# Altium schematic symbol library Converter_DCDC.SchLib: 947 symbols (part 4 of 12)
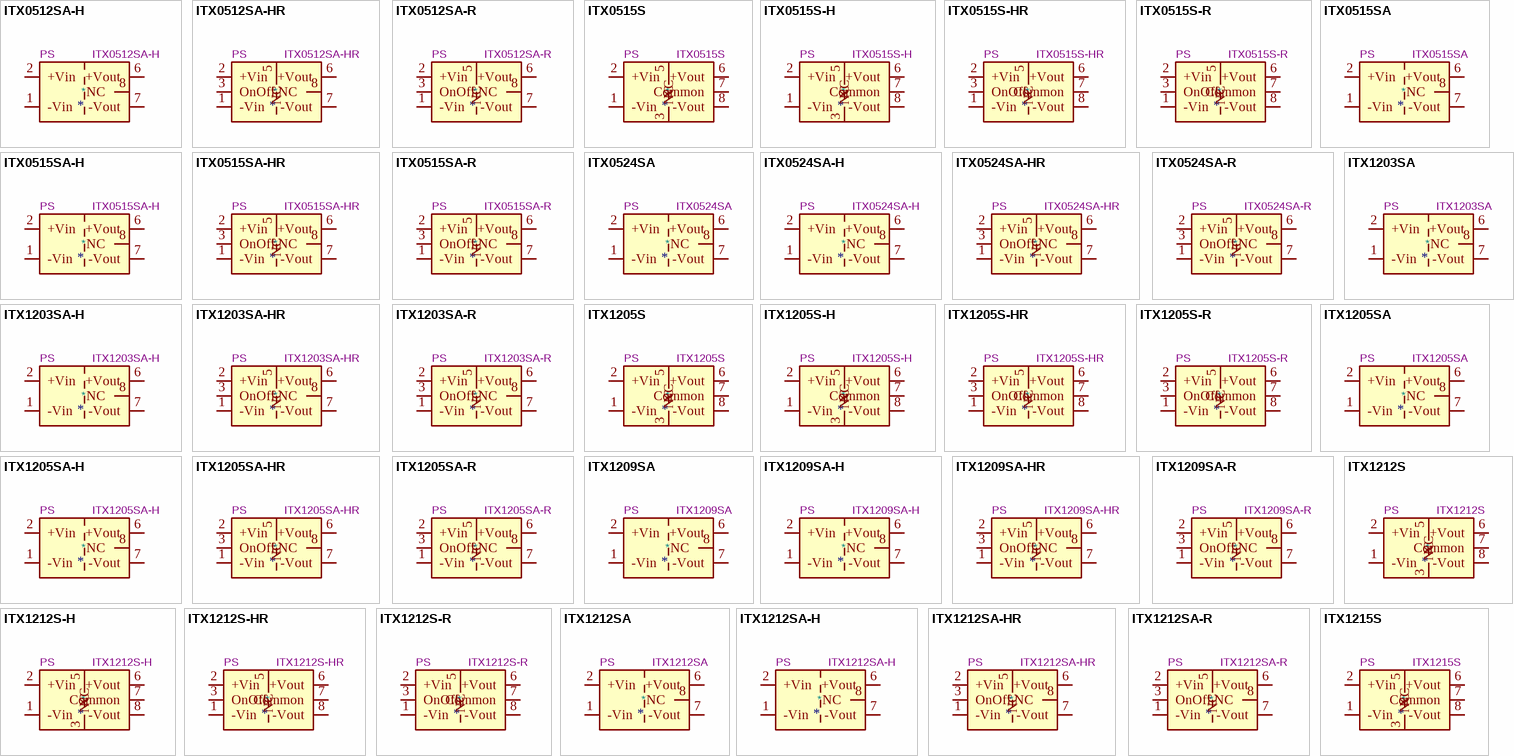
[diagram p26: symbols ITX0512SA-H to ITX1215S]

## ITX1205SA-R
designator *  value ITX1205SA-R  Reference: PS
XP Power 6W, 1000 VDC Isolated DC/DC Converter Module, Remote Control, Fully Regulated Single Output Voltage 5V, ±1200mA, 12V Input Voltage, SIP; ki_keywords: XP_POWER DC/DC isolated Converter module; ki_fp_filters: *XP?POWER?ITxxxxx*; Footprint: Converter_DCDC:Converter_DCDC_XP_POWER-ITxxxxxS_THT; Datasheet: https://www.xppower.com/pdfs/SF_ITX.pdf; Description_: XP Power 6W, 1000 VDC Isolated DC/DC Converter Module, Remote Control, Fully Regulated Single Output Voltage 5V, ±1200mA, 12V Input Voltage, SIP
pins: 1 -Vin, 2 +Vin, 3 OnOff, 5 NC, 6 +Vout, 7 -Vout, 8 NC

## ITX1209SA
designator *  value ITX1209SA  Reference: PS
XP Power 6W, 1000 VDC Isolated DC/DC Converter Module, Fully Regulated Single Output Voltage 9V, ±666mA, 12V Input Voltage, SIP; ki_keywords: XP_POWER DC/DC isolated Converter module; ki_fp_filters: *XP?POWER?ITXxxxxSA*; Footprint: Converter_DCDC:Converter_DCDC_XP_POWER-ITXxxxxSA_THT; Datasheet: https://www.xppower.com/pdfs/SF_ITX.pdf; Description_: XP Power 6W, 1000 VDC Isolated DC/DC Converter Module, Fully Regulated Single Output Voltage 9V, ±666mA, 12V Input Voltage, SIP
pins: 1 -Vin, 2 +Vin, 6 +Vout, 7 -Vout, 8 NC

## ITX1209SA-H
designator *  value ITX1209SA-H  Reference: PS
XP Power 6W, 3000 VDC Isolated DC/DC Converter Module, Fully Regulated Single Output Voltage 9V, ±666mA, 12V Input Voltage, SIP; ki_keywords: XP_POWER DC/DC isolated Converter module; ki_fp_filters: *XP?POWER?ITXxxxxSA*; Footprint: Converter_DCDC:Converter_DCDC_XP_POWER-ITXxxxxSA_THT; Datasheet: https://www.xppower.com/pdfs/SF_ITX.pdf; Description_: XP Power 6W, 3000 VDC Isolated DC/DC Converter Module, Fully Regulated Single Output Voltage 9V, ±666mA, 12V Input Voltage, SIP
pins: 1 -Vin, 2 +Vin, 6 +Vout, 7 -Vout, 8 NC

## ITX1209SA-HR
designator *  value ITX1209SA-HR  Reference: PS
XP Power 6W, 3000 VDC Isolated DC/DC Converter Module, Remote Control, Fully Regulated Single Output Voltage 9V, ±666mA, 12V Input Voltage, SIP; ki_keywords: XP_POWER DC/DC isolated Converter module; ki_fp_filters: *XP?POWER?ITxxxxx*; Footprint: Converter_DCDC:Converter_DCDC_XP_POWER-ITxxxxxS_THT; Datasheet: https://www.xppower.com/pdfs/SF_ITX.pdf; Description_: XP Power 6W, 3000 VDC Isolated DC/DC Converter Module, Remote Control, Fully Regulated Single Output Voltage 9V, ±666mA, 12V Input Voltage, SIP
pins: 1 -Vin, 2 +Vin, 3 OnOff, 5 NC, 6 +Vout, 7 -Vout, 8 NC

## ITX1209SA-R
designator *  value ITX1209SA-R  Reference: PS
XP Power 6W, 1000 VDC Isolated DC/DC Converter Module, Remote Control, Fully Regulated Single Output Voltage 9V, ±666mA, 12V Input Voltage, SIP; ki_keywords: XP_POWER DC/DC isolated Converter module; ki_fp_filters: *XP?POWER?ITxxxxx*; Footprint: Converter_DCDC:Converter_DCDC_XP_POWER-ITxxxxxS_THT; Datasheet: https://www.xppower.com/pdfs/SF_ITX.pdf; Description_: XP Power 6W, 1000 VDC Isolated DC/DC Converter Module, Remote Control, Fully Regulated Single Output Voltage 9V, ±666mA, 12V Input Voltage, SIP
pins: 1 -Vin, 2 +Vin, 3 OnOff, 5 NC, 6 +Vout, 7 -Vout, 8 NC

## ITX1212S
designator *  value ITX1212S  Reference: PS
XP Power 6W, 1000 VDC Isolated DC/DC Converter Module, Fully Regulated Dual Output Voltage ±12V, ±250mA, 12V Input Voltage, SIP; ki_keywords: XP_POWER DC/DC isolated Converter module; ki_fp_filters: *XP?POWER?ITxxxxx*; Footprint: Converter_DCDC:Converter_DCDC_XP_POWER-ITxxxxxS_THT; Datasheet: https://www.xppower.com/pdfs/SF_ITX.pdf; Description_: XP Power 6W, 1000 VDC Isolated DC/DC Converter Module, Fully Regulated Dual Output Voltage ±12V, ±250mA, 12V Input Voltage, SIP
pins: 1 -Vin, 2 +Vin, 3 NC, 5 NC, 6 +Vout, 7 Common, 8 -Vout

## ITX1212S-H
designator *  value ITX1212S-H  Reference: PS
XP Power 6W, 3000 VDC Isolated DC/DC Converter Module, Fully Regulated Dual Output Voltage ±12V, ±250mA, 12V Input Voltage, SIP; ki_keywords: XP_POWER DC/DC isolated Converter module; ki_fp_filters: *XP?POWER?ITxxxxx*; Footprint: Converter_DCDC:Converter_DCDC_XP_POWER-ITxxxxxS_THT; Datasheet: https://www.xppower.com/pdfs/SF_ITX.pdf; Description_: XP Power 6W, 3000 VDC Isolated DC/DC Converter Module, Fully Regulated Dual Output Voltage ±12V, ±250mA, 12V Input Voltage, SIP
pins: 1 -Vin, 2 +Vin, 3 NC, 5 NC, 6 +Vout, 7 Common, 8 -Vout

## ITX1212S-HR
designator *  value ITX1212S-HR  Reference: PS
XP Power 6W, 3000 VDC Isolated DC/DC Converter Module, Remote Control, Fully Regulated Dual Output Voltage ±12V, ±250mA, 12V Input Voltage, SIP; ki_keywords: XP_POWER DC/DC isolated Converter module; ki_fp_filters: *XP?POWER?ITxxxxx*; Footprint: Converter_DCDC:Converter_DCDC_XP_POWER-ITxxxxxS_THT; Datasheet: https://www.xppower.com/pdfs/SF_ITX.pdf; Description_: XP Power 6W, 3000 VDC Isolated DC/DC Converter Module, Remote Control, Fully Regulated Dual Output Voltage ±12V, ±250mA, 12V Input Voltage, SIP
pins: 1 -Vin, 2 +Vin, 3 OnOff, 5 NC, 6 +Vout, 7 Common, 8 -Vout

## ITX1212S-R
designator *  value ITX1212S-R  Reference: PS
XP Power 6W, 1000 VDC Isolated DC/DC Converter Module, Remote Control, Fully Regulated Dual Output Voltage ±12V, ±250mA, 12V Input Voltage, SIP; ki_keywords: XP_POWER DC/DC isolated Converter module; ki_fp_filters: *XP?POWER?ITxxxxx*; Footprint: Converter_DCDC:Converter_DCDC_XP_POWER-ITxxxxxS_THT; Datasheet: https://www.xppower.com/pdfs/SF_ITX.pdf; Description_: XP Power 6W, 1000 VDC Isolated DC/DC Converter Module, Remote Control, Fully Regulated Dual Output Voltage ±12V, ±250mA, 12V Input Voltage, SIP
pins: 1 -Vin, 2 +Vin, 3 OnOff, 5 NC, 6 +Vout, 7 Common, 8 -Vout

## ITX1212SA
designator *  value ITX1212SA  Reference: PS
XP Power 6W, 1000 VDC Isolated DC/DC Converter Module, Fully Regulated Single Output Voltage 12V, ±500mA, 12V Input Voltage, SIP; ki_keywords: XP_POWER DC/DC isolated Converter module; ki_fp_filters: *XP?POWER?ITXxxxxSA*; Footprint: Converter_DCDC:Converter_DCDC_XP_POWER-ITXxxxxSA_THT; Datasheet: https://www.xppower.com/pdfs/SF_ITX.pdf; Description_: XP Power 6W, 1000 VDC Isolated DC/DC Converter Module, Fully Regulated Single Output Voltage 12V, ±500mA, 12V Input Voltage, SIP
pins: 1 -Vin, 2 +Vin, 6 +Vout, 7 -Vout, 8 NC

## ITX1212SA-H
designator *  value ITX1212SA-H  Reference: PS
XP Power 6W, 3000 VDC Isolated DC/DC Converter Module, Fully Regulated Single Output Voltage 12V, ±500mA, 12V Input Voltage, SIP; ki_keywords: XP_POWER DC/DC isolated Converter module; ki_fp_filters: *XP?POWER?ITXxxxxSA*; Footprint: Converter_DCDC:Converter_DCDC_XP_POWER-ITXxxxxSA_THT; Datasheet: https://www.xppower.com/pdfs/SF_ITX.pdf; Description_: XP Power 6W, 3000 VDC Isolated DC/DC Converter Module, Fully Regulated Single Output Voltage 12V, ±500mA, 12V Input Voltage, SIP
pins: 1 -Vin, 2 +Vin, 6 +Vout, 7 -Vout, 8 NC

## ITX1212SA-HR
designator *  value ITX1212SA-HR  Reference: PS
XP Power 6W, 3000 VDC Isolated DC/DC Converter Module, Remote Control, Fully Regulated Single Output Voltage 12V, ±500mA, 12V Input Voltage, SIP; ki_keywords: XP_POWER DC/DC isolated Converter module; ki_fp_filters: *XP?POWER?ITxxxxx*; Footprint: Converter_DCDC:Converter_DCDC_XP_POWER-ITxxxxxS_THT; Datasheet: https://www.xppower.com/pdfs/SF_ITX.pdf; Description_: XP Power 6W, 3000 VDC Isolated DC/DC Converter Module, Remote Control, Fully Regulated Single Output Voltage 12V, ±500mA, 12V Input Voltage, SIP
pins: 1 -Vin, 2 +Vin, 3 OnOff, 5 NC, 6 +Vout, 7 -Vout, 8 NC

## ITX1212SA-R
designator *  value ITX1212SA-R  Reference: PS
XP Power 6W, 1000 VDC Isolated DC/DC Converter Module, Remote Control, Fully Regulated Single Output Voltage 12V, ±500mA, 12V Input Voltage, SIP; ki_keywords: XP_POWER DC/DC isolated Converter module; ki_fp_filters: *XP?POWER?ITxxxxx*; Footprint: Converter_DCDC:Converter_DCDC_XP_POWER-ITxxxxxS_THT; Datasheet: https://www.xppower.com/pdfs/SF_ITX.pdf; Description_: XP Power 6W, 1000 VDC Isolated DC/DC Converter Module, Remote Control, Fully Regulated Single Output Voltage 12V, ±500mA, 12V Input Voltage, SIP
pins: 1 -Vin, 2 +Vin, 3 OnOff, 5 NC, 6 +Vout, 7 -Vout, 8 NC

## ITX1215S
designator *  value ITX1215S  Reference: PS
XP Power 6W, 1000 VDC Isolated DC/DC Converter Module, Fully Regulated Dual Output Voltage ±15V, ±200mA, 12V Input Voltage, SIP; ki_keywords: XP_POWER DC/DC isolated Converter module; ki_fp_filters: *XP?POWER?ITxxxxx*; Footprint: Converter_DCDC:Converter_DCDC_XP_POWER-ITxxxxxS_THT; Datasheet: https://www.xppower.com/pdfs/SF_ITX.pdf; Description_: XP Power 6W, 1000 VDC Isolated DC/DC Converter Module, Fully Regulated Dual Output Voltage ±15V, ±200mA, 12V Input Voltage, SIP
pins: 1 -Vin, 2 +Vin, 3 NC, 5 NC, 6 +Vout, 7 Common, 8 -Vout

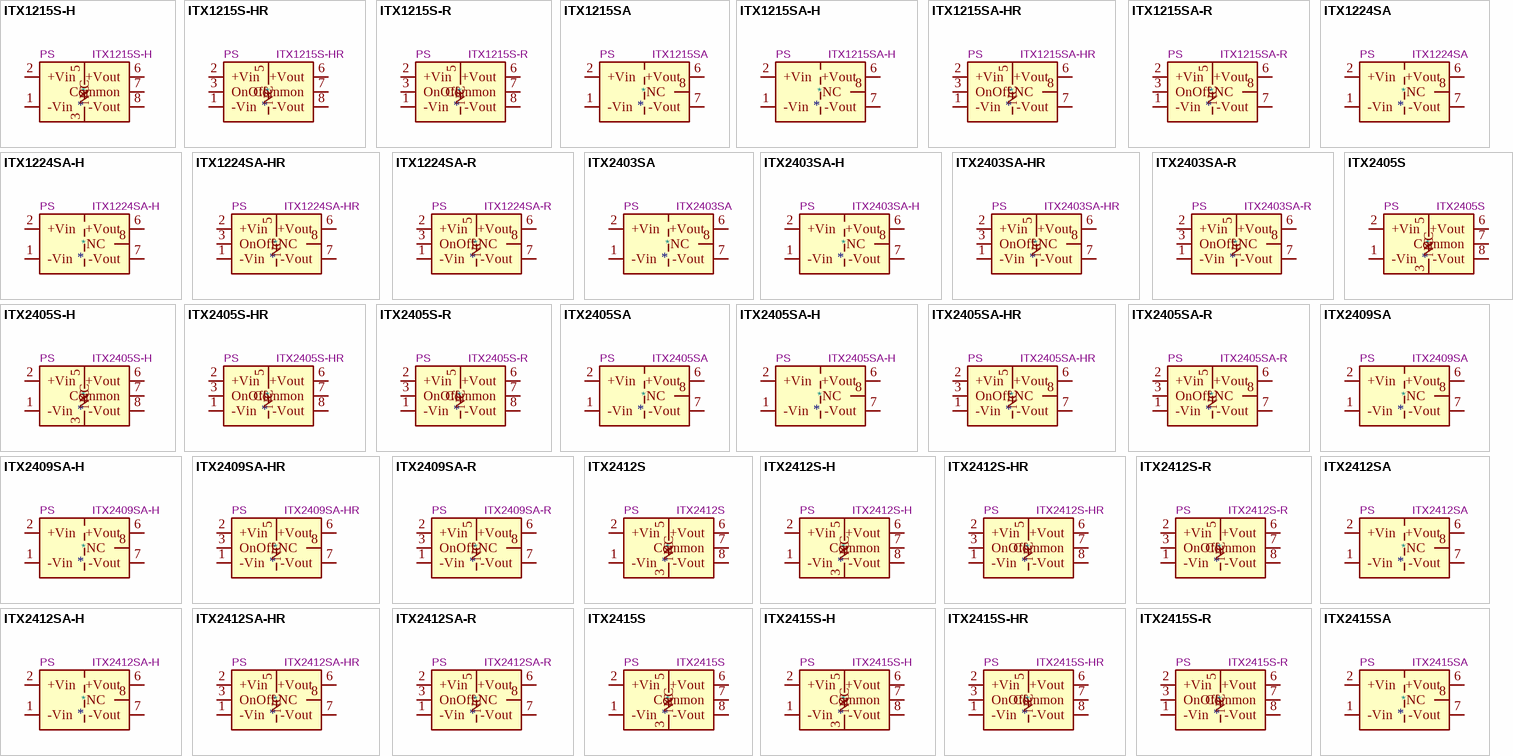
[diagram p7: symbols ITX1215S-H to ITX2415SA]

## ITX1215S-H
designator *  value ITX1215S-H  Reference: PS
XP Power 6W, 3000 VDC Isolated DC/DC Converter Module, Fully Regulated Dual Output Voltage ±15V, ±200mA, 12V Input Voltage, SIP; ki_keywords: XP_POWER DC/DC isolated Converter module; ki_fp_filters: *XP?POWER?ITxxxxx*; Footprint: Converter_DCDC:Converter_DCDC_XP_POWER-ITxxxxxS_THT; Datasheet: https://www.xppower.com/pdfs/SF_ITX.pdf; Description_: XP Power 6W, 3000 VDC Isolated DC/DC Converter Module, Fully Regulated Dual Output Voltage ±15V, ±200mA, 12V Input Voltage, SIP
pins: 1 -Vin, 2 +Vin, 3 NC, 5 NC, 6 +Vout, 7 Common, 8 -Vout

## ITX1215S-HR
designator *  value ITX1215S-HR  Reference: PS
XP Power 6W, 3000 VDC Isolated DC/DC Converter Module, Remote Control, Fully Regulated Dual Output Voltage ±15V, ±200mA, 12V Input Voltage, SIP; ki_keywords: XP_POWER DC/DC isolated Converter module; ki_fp_filters: *XP?POWER?ITxxxxx*; Footprint: Converter_DCDC:Converter_DCDC_XP_POWER-ITxxxxxS_THT; Datasheet: https://www.xppower.com/pdfs/SF_ITX.pdf; Description_: XP Power 6W, 3000 VDC Isolated DC/DC Converter Module, Remote Control, Fully Regulated Dual Output Voltage ±15V, ±200mA, 12V Input Voltage, SIP
pins: 1 -Vin, 2 +Vin, 3 OnOff, 5 NC, 6 +Vout, 7 Common, 8 -Vout

## ITX1215S-R
designator *  value ITX1215S-R  Reference: PS
XP Power 6W, 1000 VDC Isolated DC/DC Converter Module, Remote Control, Fully Regulated Dual Output Voltage ±15V, ±200mA, 12V Input Voltage, SIP; ki_keywords: XP_POWER DC/DC isolated Converter module; ki_fp_filters: *XP?POWER?ITxxxxx*; Footprint: Converter_DCDC:Converter_DCDC_XP_POWER-ITxxxxxS_THT; Datasheet: https://www.xppower.com/pdfs/SF_ITX.pdf; Description_: XP Power 6W, 1000 VDC Isolated DC/DC Converter Module, Remote Control, Fully Regulated Dual Output Voltage ±15V, ±200mA, 12V Input Voltage, SIP
pins: 1 -Vin, 2 +Vin, 3 OnOff, 5 NC, 6 +Vout, 7 Common, 8 -Vout

## ITX1215SA
designator *  value ITX1215SA  Reference: PS
XP Power 6W, 1000 VDC Isolated DC/DC Converter Module, Fully Regulated Single Output Voltage 15V, ±400mA, 12V Input Voltage, SIP; ki_keywords: XP_POWER DC/DC isolated Converter module; ki_fp_filters: *XP?POWER?ITXxxxxSA*; Footprint: Converter_DCDC:Converter_DCDC_XP_POWER-ITXxxxxSA_THT; Datasheet: https://www.xppower.com/pdfs/SF_ITX.pdf; Description_: XP Power 6W, 1000 VDC Isolated DC/DC Converter Module, Fully Regulated Single Output Voltage 15V, ±400mA, 12V Input Voltage, SIP
pins: 1 -Vin, 2 +Vin, 6 +Vout, 7 -Vout, 8 NC

## ITX1215SA-H
designator *  value ITX1215SA-H  Reference: PS
XP Power 6W, 3000 VDC Isolated DC/DC Converter Module, Fully Regulated Single Output Voltage 15V, ±400mA, 12V Input Voltage, SIP; ki_keywords: XP_POWER DC/DC isolated Converter module; ki_fp_filters: *XP?POWER?ITXxxxxSA*; Footprint: Converter_DCDC:Converter_DCDC_XP_POWER-ITXxxxxSA_THT; Datasheet: https://www.xppower.com/pdfs/SF_ITX.pdf; Description_: XP Power 6W, 3000 VDC Isolated DC/DC Converter Module, Fully Regulated Single Output Voltage 15V, ±400mA, 12V Input Voltage, SIP
pins: 1 -Vin, 2 +Vin, 6 +Vout, 7 -Vout, 8 NC

## ITX1215SA-HR
designator *  value ITX1215SA-HR  Reference: PS
XP Power 6W, 3000 VDC Isolated DC/DC Converter Module, Remote Control, Fully Regulated Single Output Voltage 15V, ±400mA, 12V Input Voltage, SIP; ki_keywords: XP_POWER DC/DC isolated Converter module; ki_fp_filters: *XP?POWER?ITxxxxx*; Footprint: Converter_DCDC:Converter_DCDC_XP_POWER-ITxxxxxS_THT; Datasheet: https://www.xppower.com/pdfs/SF_ITX.pdf; Description_: XP Power 6W, 3000 VDC Isolated DC/DC Converter Module, Remote Control, Fully Regulated Single Output Voltage 15V, ±400mA, 12V Input Voltage, SIP
pins: 1 -Vin, 2 +Vin, 3 OnOff, 5 NC, 6 +Vout, 7 -Vout, 8 NC

## ITX1215SA-R
designator *  value ITX1215SA-R  Reference: PS
XP Power 6W, 1000 VDC Isolated DC/DC Converter Module, Remote Control, Fully Regulated Single Output Voltage 15V, ±400mA, 12V Input Voltage, SIP; ki_keywords: XP_POWER DC/DC isolated Converter module; ki_fp_filters: *XP?POWER?ITxxxxx*; Footprint: Converter_DCDC:Converter_DCDC_XP_POWER-ITxxxxxS_THT; Datasheet: https://www.xppower.com/pdfs/SF_ITX.pdf; Description_: XP Power 6W, 1000 VDC Isolated DC/DC Converter Module, Remote Control, Fully Regulated Single Output Voltage 15V, ±400mA, 12V Input Voltage, SIP
pins: 1 -Vin, 2 +Vin, 3 OnOff, 5 NC, 6 +Vout, 7 -Vout, 8 NC

## ITX1224SA
designator *  value ITX1224SA  Reference: PS
XP Power 6W, 1000 VDC Isolated DC/DC Converter Module, Fully Regulated Single Output Voltage 24V, ±250mA, 12V Input Voltage, SIP; ki_keywords: XP_POWER DC/DC isolated Converter module; ki_fp_filters: *XP?POWER?ITXxxxxSA*; Footprint: Converter_DCDC:Converter_DCDC_XP_POWER-ITXxxxxSA_THT; Datasheet: https://www.xppower.com/pdfs/SF_ITX.pdf; Description_: XP Power 6W, 1000 VDC Isolated DC/DC Converter Module, Fully Regulated Single Output Voltage 24V, ±250mA, 12V Input Voltage, SIP
pins: 1 -Vin, 2 +Vin, 6 +Vout, 7 -Vout, 8 NC

## ITX1224SA-H
designator *  value ITX1224SA-H  Reference: PS
XP Power 6W, 3000 VDC Isolated DC/DC Converter Module, Fully Regulated Single Output Voltage 24V, ±250mA, 12V Input Voltage, SIP; ki_keywords: XP_POWER DC/DC isolated Converter module; ki_fp_filters: *XP?POWER?ITXxxxxSA*; Footprint: Converter_DCDC:Converter_DCDC_XP_POWER-ITXxxxxSA_THT; Datasheet: https://www.xppower.com/pdfs/SF_ITX.pdf; Description_: XP Power 6W, 3000 VDC Isolated DC/DC Converter Module, Fully Regulated Single Output Voltage 24V, ±250mA, 12V Input Voltage, SIP
pins: 1 -Vin, 2 +Vin, 6 +Vout, 7 -Vout, 8 NC

## ITX1224SA-HR
designator *  value ITX1224SA-HR  Reference: PS
XP Power 6W, 3000 VDC Isolated DC/DC Converter Module, Remote Control, Fully Regulated Single Output Voltage 24V, ±250mA, 12V Input Voltage, SIP; ki_keywords: XP_POWER DC/DC isolated Converter module; ki_fp_filters: *XP?POWER?ITxxxxx*; Footprint: Converter_DCDC:Converter_DCDC_XP_POWER-ITxxxxxS_THT; Datasheet: https://www.xppower.com/pdfs/SF_ITX.pdf; Description_: XP Power 6W, 3000 VDC Isolated DC/DC Converter Module, Remote Control, Fully Regulated Single Output Voltage 24V, ±250mA, 12V Input Voltage, SIP
pins: 1 -Vin, 2 +Vin, 3 OnOff, 5 NC, 6 +Vout, 7 -Vout, 8 NC

## ITX1224SA-R
designator *  value ITX1224SA-R  Reference: PS
XP Power 6W, 1000 VDC Isolated DC/DC Converter Module, Remote Control, Fully Regulated Single Output Voltage 24V, ±250mA, 12V Input Voltage, SIP; ki_keywords: XP_POWER DC/DC isolated Converter module; ki_fp_filters: *XP?POWER?ITxxxxx*; Footprint: Converter_DCDC:Converter_DCDC_XP_POWER-ITxxxxxS_THT; Datasheet: https://www.xppower.com/pdfs/SF_ITX.pdf; Description_: XP Power 6W, 1000 VDC Isolated DC/DC Converter Module, Remote Control, Fully Regulated Single Output Voltage 24V, ±250mA, 12V Input Voltage, SIP
pins: 1 -Vin, 2 +Vin, 3 OnOff, 5 NC, 6 +Vout, 7 -Vout, 8 NC

## ITX2403SA
designator *  value ITX2403SA  Reference: PS
XP Power 6W, 1000 VDC Isolated DC/DC Converter Module, Fully Regulated Single Output Voltage 3.3V, ±1300mA, 24V Input Voltage, SIP; ki_keywords: XP_POWER DC/DC isolated Converter module; ki_fp_filters: *XP?POWER?ITXxxxxSA*; Footprint: Converter_DCDC:Converter_DCDC_XP_POWER-ITXxxxxSA_THT; Datasheet: https://www.xppower.com/pdfs/SF_ITX.pdf; Description_: XP Power 6W, 1000 VDC Isolated DC/DC Converter Module, Fully Regulated Single Output Voltage 3.3V, ±1300mA, 24V Input Voltage, SIP
pins: 1 -Vin, 2 +Vin, 6 +Vout, 7 -Vout, 8 NC

## ITX2403SA-H
designator *  value ITX2403SA-H  Reference: PS
XP Power 6W, 3000 VDC Isolated DC/DC Converter Module, Fully Regulated Single Output Voltage 3.3V, ±1300mA, 24V Input Voltage, SIP; ki_keywords: XP_POWER DC/DC isolated Converter module; ki_fp_filters: *XP?POWER?ITXxxxxSA*; Footprint: Converter_DCDC:Converter_DCDC_XP_POWER-ITXxxxxSA_THT; Datasheet: https://www.xppower.com/pdfs/SF_ITX.pdf; Description_: XP Power 6W, 3000 VDC Isolated DC/DC Converter Module, Fully Regulated Single Output Voltage 3.3V, ±1300mA, 24V Input Voltage, SIP
pins: 1 -Vin, 2 +Vin, 6 +Vout, 7 -Vout, 8 NC

## ITX2403SA-HR
designator *  value ITX2403SA-HR  Reference: PS
XP Power 6W, 3000 VDC Isolated DC/DC Converter Module, Remote Control, Fully Regulated Single Output Voltage 3.3V, ±1300mA, 24V Input Voltage, SIP; ki_keywords: XP_POWER DC/DC isolated Converter module; ki_fp_filters: *XP?POWER?ITxxxxx*; Footprint: Converter_DCDC:Converter_DCDC_XP_POWER-ITxxxxxS_THT; Datasheet: https://www.xppower.com/pdfs/SF_ITX.pdf; Description_: XP Power 6W, 3000 VDC Isolated DC/DC Converter Module, Remote Control, Fully Regulated Single Output Voltage 3.3V, ±1300mA, 24V Input Voltage, SIP
pins: 1 -Vin, 2 +Vin, 3 OnOff, 5 NC, 6 +Vout, 7 -Vout, 8 NC

## ITX2403SA-R
designator *  value ITX2403SA-R  Reference: PS
XP Power 6W, 1000 VDC Isolated DC/DC Converter Module, Remote Control, Fully Regulated Single Output Voltage 3.3V, ±1300mA, 24V Input Voltage, SIP; ki_keywords: XP_POWER DC/DC isolated Converter module; ki_fp_filters: *XP?POWER?ITxxxxx*; Footprint: Converter_DCDC:Converter_DCDC_XP_POWER-ITxxxxxS_THT; Datasheet: https://www.xppower.com/pdfs/SF_ITX.pdf; Description_: XP Power 6W, 1000 VDC Isolated DC/DC Converter Module, Remote Control, Fully Regulated Single Output Voltage 3.3V, ±1300mA, 24V Input Voltage, SIP
pins: 1 -Vin, 2 +Vin, 3 OnOff, 5 NC, 6 +Vout, 7 -Vout, 8 NC

## ITX2405S
designator *  value ITX2405S  Reference: PS
XP Power 6W, 1000 VDC Isolated DC/DC Converter Module, Fully Regulated Dual Output Voltage ±5V, ±600mA, 24V Input Voltage, SIP; ki_keywords: XP_POWER DC/DC isolated Converter module; ki_fp_filters: *XP?POWER?ITxxxxx*; Footprint: Converter_DCDC:Converter_DCDC_XP_POWER-ITxxxxxS_THT; Datasheet: https://www.xppower.com/pdfs/SF_ITX.pdf; Description_: XP Power 6W, 1000 VDC Isolated DC/DC Converter Module, Fully Regulated Dual Output Voltage ±5V, ±600mA, 24V Input Voltage, SIP
pins: 1 -Vin, 2 +Vin, 3 NC, 5 NC, 6 +Vout, 7 Common, 8 -Vout

## ITX2405S-H
designator *  value ITX2405S-H  Reference: PS
XP Power 6W, 3000 VDC Isolated DC/DC Converter Module, Fully Regulated Dual Output Voltage ±5V, ±600mA, 24V Input Voltage, SIP; ki_keywords: XP_POWER DC/DC isolated Converter module; ki_fp_filters: *XP?POWER?ITxxxxx*; Footprint: Converter_DCDC:Converter_DCDC_XP_POWER-ITxxxxxS_THT; Datasheet: https://www.xppower.com/pdfs/SF_ITX.pdf; Description_: XP Power 6W, 3000 VDC Isolated DC/DC Converter Module, Fully Regulated Dual Output Voltage ±5V, ±600mA, 24V Input Voltage, SIP
pins: 1 -Vin, 2 +Vin, 3 NC, 5 NC, 6 +Vout, 7 Common, 8 -Vout

## ITX2405S-HR
designator *  value ITX2405S-HR  Reference: PS
XP Power 6W, 3000 VDC Isolated DC/DC Converter Module, Remote Control, Fully Regulated Dual Output Voltage ±5V, ±600mA, 24V Input Voltage, SIP; ki_keywords: XP_POWER DC/DC isolated Converter module; ki_fp_filters: *XP?POWER?ITxxxxx*; Footprint: Converter_DCDC:Converter_DCDC_XP_POWER-ITxxxxxS_THT; Datasheet: https://www.xppower.com/pdfs/SF_ITX.pdf; Description_: XP Power 6W, 3000 VDC Isolated DC/DC Converter Module, Remote Control, Fully Regulated Dual Output Voltage ±5V, ±600mA, 24V Input Voltage, SIP
pins: 1 -Vin, 2 +Vin, 3 OnOff, 5 NC, 6 +Vout, 7 Common, 8 -Vout

## ITX2405S-R
designator *  value ITX2405S-R  Reference: PS
XP Power 6W, 1000 VDC Isolated DC/DC Converter Module, Remote Control, Fully Regulated Dual Output Voltage ±5V, ±600mA, 24V Input Voltage, SIP; ki_keywords: XP_POWER DC/DC isolated Converter module; ki_fp_filters: *XP?POWER?ITxxxxx*; Footprint: Converter_DCDC:Converter_DCDC_XP_POWER-ITxxxxxS_THT; Datasheet: https://www.xppower.com/pdfs/SF_ITX.pdf; Description_: XP Power 6W, 1000 VDC Isolated DC/DC Converter Module, Remote Control, Fully Regulated Dual Output Voltage ±5V, ±600mA, 24V Input Voltage, SIP
pins: 1 -Vin, 2 +Vin, 3 OnOff, 5 NC, 6 +Vout, 7 Common, 8 -Vout

## ITX2405SA
designator *  value ITX2405SA  Reference: PS
XP Power 6W, 1000 VDC Isolated DC/DC Converter Module, Fully Regulated Single Output Voltage 5V, ±1200mA, 24V Input Voltage, SIP; ki_keywords: XP_POWER DC/DC isolated Converter module; ki_fp_filters: *XP?POWER?ITXxxxxSA*; Footprint: Converter_DCDC:Converter_DCDC_XP_POWER-ITXxxxxSA_THT; Datasheet: https://www.xppower.com/pdfs/SF_ITX.pdf; Description_: XP Power 6W, 1000 VDC Isolated DC/DC Converter Module, Fully Regulated Single Output Voltage 5V, ±1200mA, 24V Input Voltage, SIP
pins: 1 -Vin, 2 +Vin, 6 +Vout, 7 -Vout, 8 NC

## ITX2405SA-H
designator *  value ITX2405SA-H  Reference: PS
XP Power 6W, 3000 VDC Isolated DC/DC Converter Module, Fully Regulated Single Output Voltage 5V, ±1200mA, 24V Input Voltage, SIP; ki_keywords: XP_POWER DC/DC isolated Converter module; ki_fp_filters: *XP?POWER?ITXxxxxSA*; Footprint: Converter_DCDC:Converter_DCDC_XP_POWER-ITXxxxxSA_THT; Datasheet: https://www.xppower.com/pdfs/SF_ITX.pdf; Description_: XP Power 6W, 3000 VDC Isolated DC/DC Converter Module, Fully Regulated Single Output Voltage 5V, ±1200mA, 24V Input Voltage, SIP
pins: 1 -Vin, 2 +Vin, 6 +Vout, 7 -Vout, 8 NC

## ITX2405SA-HR
designator *  value ITX2405SA-HR  Reference: PS
XP Power 6W, 3000 VDC Isolated DC/DC Converter Module, Remote Control, Fully Regulated Single Output Voltage 5V, ±1200mA, 24V Input Voltage, SIP; ki_keywords: XP_POWER DC/DC isolated Converter module; ki_fp_filters: *XP?POWER?ITxxxxx*; Footprint: Converter_DCDC:Converter_DCDC_XP_POWER-ITxxxxxS_THT; Datasheet: https://www.xppower.com/pdfs/SF_ITX.pdf; Description_: XP Power 6W, 3000 VDC Isolated DC/DC Converter Module, Remote Control, Fully Regulated Single Output Voltage 5V, ±1200mA, 24V Input Voltage, SIP
pins: 1 -Vin, 2 +Vin, 3 OnOff, 5 NC, 6 +Vout, 7 -Vout, 8 NC

## ITX2405SA-R
designator *  value ITX2405SA-R  Reference: PS
XP Power 6W, 1000 VDC Isolated DC/DC Converter Module, Remote Control, Fully Regulated Single Output Voltage 5V, ±1200mA, 24V Input Voltage, SIP; ki_keywords: XP_POWER DC/DC isolated Converter module; ki_fp_filters: *XP?POWER?ITxxxxx*; Footprint: Converter_DCDC:Converter_DCDC_XP_POWER-ITxxxxxS_THT; Datasheet: https://www.xppower.com/pdfs/SF_ITX.pdf; Description_: XP Power 6W, 1000 VDC Isolated DC/DC Converter Module, Remote Control, Fully Regulated Single Output Voltage 5V, ±1200mA, 24V Input Voltage, SIP
pins: 1 -Vin, 2 +Vin, 3 OnOff, 5 NC, 6 +Vout, 7 -Vout, 8 NC

## ITX2409SA
designator *  value ITX2409SA  Reference: PS
XP Power 6W, 1000 VDC Isolated DC/DC Converter Module, Fully Regulated Single Output Voltage 9V, ±666mA, 24V Input Voltage, SIP; ki_keywords: XP_POWER DC/DC isolated Converter module; ki_fp_filters: *XP?POWER?ITXxxxxSA*; Footprint: Converter_DCDC:Converter_DCDC_XP_POWER-ITXxxxxSA_THT; Datasheet: https://www.xppower.com/pdfs/SF_ITX.pdf; Description_: XP Power 6W, 1000 VDC Isolated DC/DC Converter Module, Fully Regulated Single Output Voltage 9V, ±666mA, 24V Input Voltage, SIP
pins: 1 -Vin, 2 +Vin, 6 +Vout, 7 -Vout, 8 NC

## ITX2409SA-H
designator *  value ITX2409SA-H  Reference: PS
XP Power 6W, 3000 VDC Isolated DC/DC Converter Module, Fully Regulated Single Output Voltage 9V, ±666mA, 24V Input Voltage, SIP; ki_keywords: XP_POWER DC/DC isolated Converter module; ki_fp_filters: *XP?POWER?ITXxxxxSA*; Footprint: Converter_DCDC:Converter_DCDC_XP_POWER-ITXxxxxSA_THT; Datasheet: https://www.xppower.com/pdfs/SF_ITX.pdf; Description_: XP Power 6W, 3000 VDC Isolated DC/DC Converter Module, Fully Regulated Single Output Voltage 9V, ±666mA, 24V Input Voltage, SIP
pins: 1 -Vin, 2 +Vin, 6 +Vout, 7 -Vout, 8 NC

## ITX2409SA-HR
designator *  value ITX2409SA-HR  Reference: PS
XP Power 6W, 3000 VDC Isolated DC/DC Converter Module, Remote Control, Fully Regulated Single Output Voltage 9V, ±666mA, 24V Input Voltage, SIP; ki_keywords: XP_POWER DC/DC isolated Converter module; ki_fp_filters: *XP?POWER?ITxxxxx*; Footprint: Converter_DCDC:Converter_DCDC_XP_POWER-ITxxxxxS_THT; Datasheet: https://www.xppower.com/pdfs/SF_ITX.pdf; Description_: XP Power 6W, 3000 VDC Isolated DC/DC Converter Module, Remote Control, Fully Regulated Single Output Voltage 9V, ±666mA, 24V Input Voltage, SIP
pins: 1 -Vin, 2 +Vin, 3 OnOff, 5 NC, 6 +Vout, 7 -Vout, 8 NC

## ITX2409SA-R
designator *  value ITX2409SA-R  Reference: PS
XP Power 6W, 1000 VDC Isolated DC/DC Converter Module, Remote Control, Fully Regulated Single Output Voltage 9V, ±666mA, 24V Input Voltage, SIP; ki_keywords: XP_POWER DC/DC isolated Converter module; ki_fp_filters: *XP?POWER?ITxxxxx*; Footprint: Converter_DCDC:Converter_DCDC_XP_POWER-ITxxxxxS_THT; Datasheet: https://www.xppower.com/pdfs/SF_ITX.pdf; Description_: XP Power 6W, 1000 VDC Isolated DC/DC Converter Module, Remote Control, Fully Regulated Single Output Voltage 9V, ±666mA, 24V Input Voltage, SIP
pins: 1 -Vin, 2 +Vin, 3 OnOff, 5 NC, 6 +Vout, 7 -Vout, 8 NC

## ITX2412S
designator *  value ITX2412S  Reference: PS
XP Power 6W, 1000 VDC Isolated DC/DC Converter Module, Fully Regulated Dual Output Voltage ±12V, ±250mA, 24V Input Voltage, SIP; ki_keywords: XP_POWER DC/DC isolated Converter module; ki_fp_filters: *XP?POWER?ITxxxxx*; Footprint: Converter_DCDC:Converter_DCDC_XP_POWER-ITxxxxxS_THT; Datasheet: https://www.xppower.com/pdfs/SF_ITX.pdf; Description_: XP Power 6W, 1000 VDC Isolated DC/DC Converter Module, Fully Regulated Dual Output Voltage ±12V, ±250mA, 24V Input Voltage, SIP
pins: 1 -Vin, 2 +Vin, 3 NC, 5 NC, 6 +Vout, 7 Common, 8 -Vout

## ITX2412S-H
designator *  value ITX2412S-H  Reference: PS
XP Power 6W, 3000 VDC Isolated DC/DC Converter Module, Fully Regulated Dual Output Voltage ±12V, ±250mA, 24V Input Voltage, SIP; ki_keywords: XP_POWER DC/DC isolated Converter module; ki_fp_filters: *XP?POWER?ITxxxxx*; Footprint: Converter_DCDC:Converter_DCDC_XP_POWER-ITxxxxxS_THT; Datasheet: https://www.xppower.com/pdfs/SF_ITX.pdf; Description_: XP Power 6W, 3000 VDC Isolated DC/DC Converter Module, Fully Regulated Dual Output Voltage ±12V, ±250mA, 24V Input Voltage, SIP
pins: 1 -Vin, 2 +Vin, 3 NC, 5 NC, 6 +Vout, 7 Common, 8 -Vout

## ITX2412S-HR
designator *  value ITX2412S-HR  Reference: PS
XP Power 6W, 3000 VDC Isolated DC/DC Converter Module, Remote Control, Fully Regulated Dual Output Voltage ±12V, ±250mA, 24V Input Voltage, SIP; ki_keywords: XP_POWER DC/DC isolated Converter module; ki_fp_filters: *XP?POWER?ITxxxxx*; Footprint: Converter_DCDC:Converter_DCDC_XP_POWER-ITxxxxxS_THT; Datasheet: https://www.xppower.com/pdfs/SF_ITX.pdf; Description_: XP Power 6W, 3000 VDC Isolated DC/DC Converter Module, Remote Control, Fully Regulated Dual Output Voltage ±12V, ±250mA, 24V Input Voltage, SIP
pins: 1 -Vin, 2 +Vin, 3 OnOff, 5 NC, 6 +Vout, 7 Common, 8 -Vout

## ITX2412S-R
designator *  value ITX2412S-R  Reference: PS
XP Power 6W, 1000 VDC Isolated DC/DC Converter Module, Remote Control, Fully Regulated Dual Output Voltage ±12V, ±250mA, 24V Input Voltage, SIP; ki_keywords: XP_POWER DC/DC isolated Converter module; ki_fp_filters: *XP?POWER?ITxxxxx*; Footprint: Converter_DCDC:Converter_DCDC_XP_POWER-ITxxxxxS_THT; Datasheet: https://www.xppower.com/pdfs/SF_ITX.pdf; Description_: XP Power 6W, 1000 VDC Isolated DC/DC Converter Module, Remote Control, Fully Regulated Dual Output Voltage ±12V, ±250mA, 24V Input Voltage, SIP
pins: 1 -Vin, 2 +Vin, 3 OnOff, 5 NC, 6 +Vout, 7 Common, 8 -Vout

## ITX2412SA
designator *  value ITX2412SA  Reference: PS
XP Power 6W, 1000 VDC Isolated DC/DC Converter Module, Fully Regulated Single Output Voltage 12V, ±500mA, 24V Input Voltage, SIP; ki_keywords: XP_POWER DC/DC isolated Converter module; ki_fp_filters: *XP?POWER?ITXxxxxSA*; Footprint: Converter_DCDC:Converter_DCDC_XP_POWER-ITXxxxxSA_THT; Datasheet: https://www.xppower.com/pdfs/SF_ITX.pdf; Description_: XP Power 6W, 1000 VDC Isolated DC/DC Converter Module, Fully Regulated Single Output Voltage 12V, ±500mA, 24V Input Voltage, SIP
pins: 1 -Vin, 2 +Vin, 6 +Vout, 7 -Vout, 8 NC

## ITX2412SA-H
designator *  value ITX2412SA-H  Reference: PS
XP Power 6W, 3000 VDC Isolated DC/DC Converter Module, Fully Regulated Single Output Voltage 12V, ±500mA, 24V Input Voltage, SIP; ki_keywords: XP_POWER DC/DC isolated Converter module; ki_fp_filters: *XP?POWER?ITXxxxxSA*; Footprint: Converter_DCDC:Converter_DCDC_XP_POWER-ITXxxxxSA_THT; Datasheet: https://www.xppower.com/pdfs/SF_ITX.pdf; Description_: XP Power 6W, 3000 VDC Isolated DC/DC Converter Module, Fully Regulated Single Output Voltage 12V, ±500mA, 24V Input Voltage, SIP
pins: 1 -Vin, 2 +Vin, 6 +Vout, 7 -Vout, 8 NC

## ITX2412SA-HR
designator *  value ITX2412SA-HR  Reference: PS
XP Power 6W, 3000 VDC Isolated DC/DC Converter Module, Remote Control, Fully Regulated Single Output Voltage 12V, ±500mA, 24V Input Voltage, SIP; ki_keywords: XP_POWER DC/DC isolated Converter module; ki_fp_filters: *XP?POWER?ITxxxxx*; Footprint: Converter_DCDC:Converter_DCDC_XP_POWER-ITxxxxxS_THT; Datasheet: https://www.xppower.com/pdfs/SF_ITX.pdf; Description_: XP Power 6W, 3000 VDC Isolated DC/DC Converter Module, Remote Control, Fully Regulated Single Output Voltage 12V, ±500mA, 24V Input Voltage, SIP
pins: 1 -Vin, 2 +Vin, 3 OnOff, 5 NC, 6 +Vout, 7 -Vout, 8 NC

## ITX2412SA-R
designator *  value ITX2412SA-R  Reference: PS
XP Power 6W, 1000 VDC Isolated DC/DC Converter Module, Remote Control, Fully Regulated Single Output Voltage 12V, ±500mA, 24V Input Voltage, SIP; ki_keywords: XP_POWER DC/DC isolated Converter module; ki_fp_filters: *XP?POWER?ITxxxxx*; Footprint: Converter_DCDC:Converter_DCDC_XP_POWER-ITxxxxxS_THT; Datasheet: https://www.xppower.com/pdfs/SF_ITX.pdf; Description_: XP Power 6W, 1000 VDC Isolated DC/DC Converter Module, Remote Control, Fully Regulated Single Output Voltage 12V, ±500mA, 24V Input Voltage, SIP
pins: 1 -Vin, 2 +Vin, 3 OnOff, 5 NC, 6 +Vout, 7 -Vout, 8 NC

## ITX2415S
designator *  value ITX2415S  Reference: PS
XP Power 6W, 1000 VDC Isolated DC/DC Converter Module, Fully Regulated Dual Output Voltage ±15V, ±200mA, 24V Input Voltage, SIP; ki_keywords: XP_POWER DC/DC isolated Converter module; ki_fp_filters: *XP?POWER?ITxxxxx*; Footprint: Converter_DCDC:Converter_DCDC_XP_POWER-ITxxxxxS_THT; Datasheet: https://www.xppower.com/pdfs/SF_ITX.pdf; Description_: XP Power 6W, 1000 VDC Isolated DC/DC Converter Module, Fully Regulated Dual Output Voltage ±15V, ±200mA, 24V Input Voltage, SIP
pins: 1 -Vin, 2 +Vin, 3 NC, 5 NC, 6 +Vout, 7 Common, 8 -Vout

## ITX2415S-H
designator *  value ITX2415S-H  Reference: PS
XP Power 6W, 3000 VDC Isolated DC/DC Converter Module, Fully Regulated Dual Output Voltage ±15V, ±200mA, 24V Input Voltage, SIP; ki_keywords: XP_POWER DC/DC isolated Converter module; ki_fp_filters: *XP?POWER?ITxxxxx*; Footprint: Converter_DCDC:Converter_DCDC_XP_POWER-ITxxxxxS_THT; Datasheet: https://www.xppower.com/pdfs/SF_ITX.pdf; Description_: XP Power 6W, 3000 VDC Isolated DC/DC Converter Module, Fully Regulated Dual Output Voltage ±15V, ±200mA, 24V Input Voltage, SIP
pins: 1 -Vin, 2 +Vin, 3 NC, 5 NC, 6 +Vout, 7 Common, 8 -Vout

## ITX2415S-HR
designator *  value ITX2415S-HR  Reference: PS
XP Power 6W, 3000 VDC Isolated DC/DC Converter Module, Remote Control, Fully Regulated Dual Output Voltage ±15V, ±200mA, 24V Input Voltage, SIP; ki_keywords: XP_POWER DC/DC isolated Converter module; ki_fp_filters: *XP?POWER?ITxxxxx*; Footprint: Converter_DCDC:Converter_DCDC_XP_POWER-ITxxxxxS_THT; Datasheet: https://www.xppower.com/pdfs/SF_ITX.pdf; Description_: XP Power 6W, 3000 VDC Isolated DC/DC Converter Module, Remote Control, Fully Regulated Dual Output Voltage ±15V, ±200mA, 24V Input Voltage, SIP
pins: 1 -Vin, 2 +Vin, 3 OnOff, 5 NC, 6 +Vout, 7 Common, 8 -Vout

## ITX2415S-R
designator *  value ITX2415S-R  Reference: PS
XP Power 6W, 1000 VDC Isolated DC/DC Converter Module, Remote Control, Fully Regulated Dual Output Voltage ±15V, ±200mA, 24V Input Voltage, SIP; ki_keywords: XP_POWER DC/DC isolated Converter module; ki_fp_filters: *XP?POWER?ITxxxxx*; Footprint: Converter_DCDC:Converter_DCDC_XP_POWER-ITxxxxxS_THT; Datasheet: https://www.xppower.com/pdfs/SF_ITX.pdf; Description_: XP Power 6W, 1000 VDC Isolated DC/DC Converter Module, Remote Control, Fully Regulated Dual Output Voltage ±15V, ±200mA, 24V Input Voltage, SIP
pins: 1 -Vin, 2 +Vin, 3 OnOff, 5 NC, 6 +Vout, 7 Common, 8 -Vout

## ITX2415SA
designator *  value ITX2415SA  Reference: PS
XP Power 6W, 1000 VDC Isolated DC/DC Converter Module, Fully Regulated Single Output Voltage 15V, ±400mA, 24V Input Voltage, SIP; ki_keywords: XP_POWER DC/DC isolated Converter module; ki_fp_filters: *XP?POWER?ITXxxxxSA*; Footprint: Converter_DCDC:Converter_DCDC_XP_POWER-ITXxxxxSA_THT; Datasheet: https://www.xppower.com/pdfs/SF_ITX.pdf; Description_: XP Power 6W, 1000 VDC Isolated DC/DC Converter Module, Fully Regulated Single Output Voltage 15V, ±400mA, 24V Input Voltage, SIP
pins: 1 -Vin, 2 +Vin, 6 +Vout, 7 -Vout, 8 NC

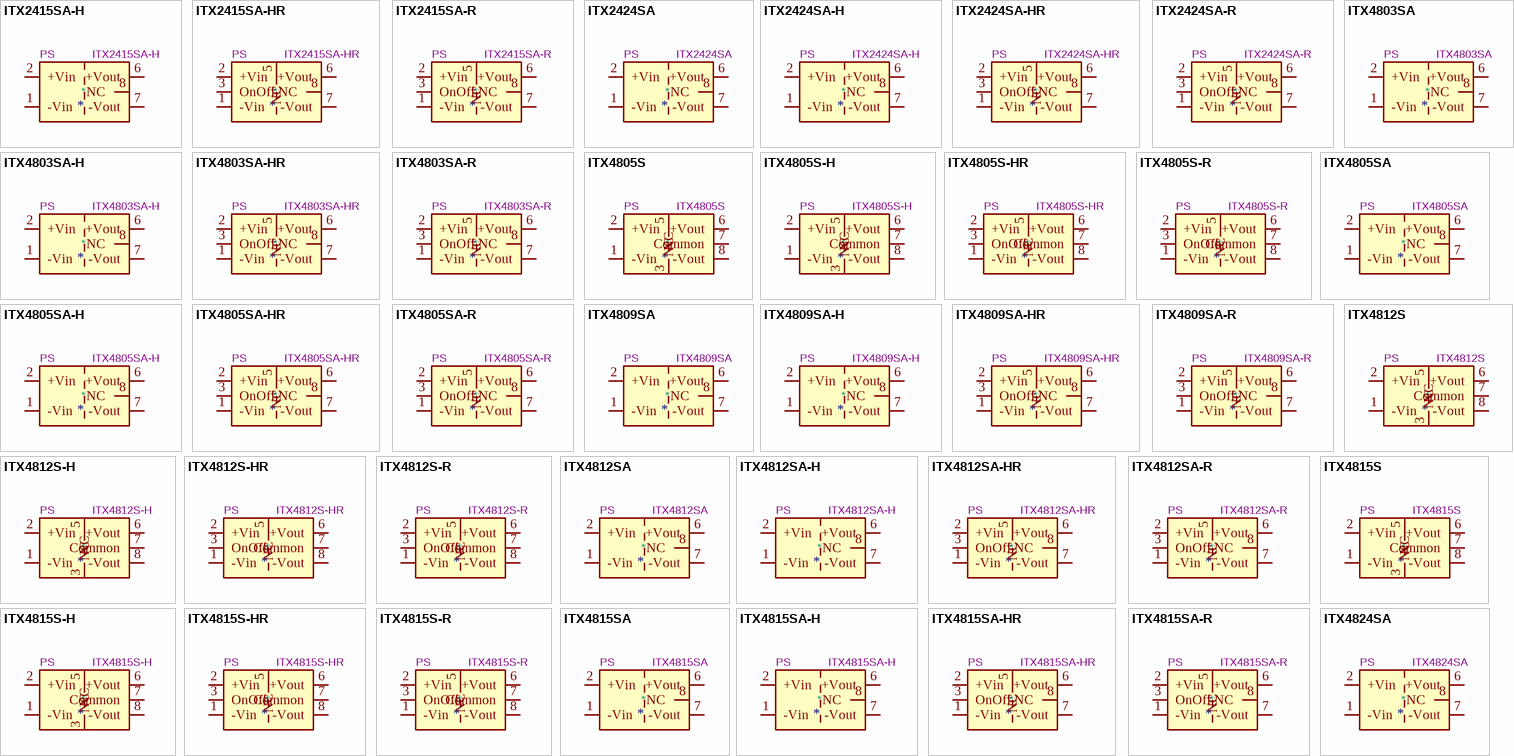
[diagram p8: symbols ITX2415SA-H to ITX4824SA]

## ITX2415SA-H
designator *  value ITX2415SA-H  Reference: PS
XP Power 6W, 3000 VDC Isolated DC/DC Converter Module, Fully Regulated Single Output Voltage 15V, ±400mA, 24V Input Voltage, SIP; ki_keywords: XP_POWER DC/DC isolated Converter module; ki_fp_filters: *XP?POWER?ITXxxxxSA*; Footprint: Converter_DCDC:Converter_DCDC_XP_POWER-ITXxxxxSA_THT; Datasheet: https://www.xppower.com/pdfs/SF_ITX.pdf; Description_: XP Power 6W, 3000 VDC Isolated DC/DC Converter Module, Fully Regulated Single Output Voltage 15V, ±400mA, 24V Input Voltage, SIP
pins: 1 -Vin, 2 +Vin, 6 +Vout, 7 -Vout, 8 NC

## ITX2415SA-HR
designator *  value ITX2415SA-HR  Reference: PS
XP Power 6W, 3000 VDC Isolated DC/DC Converter Module, Remote Control, Fully Regulated Single Output Voltage 15V, ±400mA, 24V Input Voltage, SIP; ki_keywords: XP_POWER DC/DC isolated Converter module; ki_fp_filters: *XP?POWER?ITxxxxx*; Footprint: Converter_DCDC:Converter_DCDC_XP_POWER-ITxxxxxS_THT; Datasheet: https://www.xppower.com/pdfs/SF_ITX.pdf; Description_: XP Power 6W, 3000 VDC Isolated DC/DC Converter Module, Remote Control, Fully Regulated Single Output Voltage 15V, ±400mA, 24V Input Voltage, SIP
pins: 1 -Vin, 2 +Vin, 3 OnOff, 5 NC, 6 +Vout, 7 -Vout, 8 NC

## ITX2415SA-R
designator *  value ITX2415SA-R  Reference: PS
XP Power 6W, 1000 VDC Isolated DC/DC Converter Module, Remote Control, Fully Regulated Single Output Voltage 15V, ±400mA, 24V Input Voltage, SIP; ki_keywords: XP_POWER DC/DC isolated Converter module; ki_fp_filters: *XP?POWER?ITxxxxx*; Footprint: Converter_DCDC:Converter_DCDC_XP_POWER-ITxxxxxS_THT; Datasheet: https://www.xppower.com/pdfs/SF_ITX.pdf; Description_: XP Power 6W, 1000 VDC Isolated DC/DC Converter Module, Remote Control, Fully Regulated Single Output Voltage 15V, ±400mA, 24V Input Voltage, SIP
pins: 1 -Vin, 2 +Vin, 3 OnOff, 5 NC, 6 +Vout, 7 -Vout, 8 NC

## ITX2424SA
designator *  value ITX2424SA  Reference: PS
XP Power 6W, 1000 VDC Isolated DC/DC Converter Module, Fully Regulated Single Output Voltage 24V, ±250mA, 24V Input Voltage, SIP; ki_keywords: XP_POWER DC/DC isolated Converter module; ki_fp_filters: *XP?POWER?ITXxxxxSA*; Footprint: Converter_DCDC:Converter_DCDC_XP_POWER-ITXxxxxSA_THT; Datasheet: https://www.xppower.com/pdfs/SF_ITX.pdf; Description_: XP Power 6W, 1000 VDC Isolated DC/DC Converter Module, Fully Regulated Single Output Voltage 24V, ±250mA, 24V Input Voltage, SIP
pins: 1 -Vin, 2 +Vin, 6 +Vout, 7 -Vout, 8 NC

## ITX2424SA-H
designator *  value ITX2424SA-H  Reference: PS
XP Power 6W, 3000 VDC Isolated DC/DC Converter Module, Fully Regulated Single Output Voltage 24V, ±250mA, 24V Input Voltage, SIP; ki_keywords: XP_POWER DC/DC isolated Converter module; ki_fp_filters: *XP?POWER?ITXxxxxSA*; Footprint: Converter_DCDC:Converter_DCDC_XP_POWER-ITXxxxxSA_THT; Datasheet: https://www.xppower.com/pdfs/SF_ITX.pdf; Description_: XP Power 6W, 3000 VDC Isolated DC/DC Converter Module, Fully Regulated Single Output Voltage 24V, ±250mA, 24V Input Voltage, SIP
pins: 1 -Vin, 2 +Vin, 6 +Vout, 7 -Vout, 8 NC

## ITX2424SA-HR
designator *  value ITX2424SA-HR  Reference: PS
XP Power 6W, 3000 VDC Isolated DC/DC Converter Module, Remote Control, Fully Regulated Single Output Voltage 24V, ±250mA, 24V Input Voltage, SIP; ki_keywords: XP_POWER DC/DC isolated Converter module; ki_fp_filters: *XP?POWER?ITxxxxx*; Footprint: Converter_DCDC:Converter_DCDC_XP_POWER-ITxxxxxS_THT; Datasheet: https://www.xppower.com/pdfs/SF_ITX.pdf; Description_: XP Power 6W, 3000 VDC Isolated DC/DC Converter Module, Remote Control, Fully Regulated Single Output Voltage 24V, ±250mA, 24V Input Voltage, SIP
pins: 1 -Vin, 2 +Vin, 3 OnOff, 5 NC, 6 +Vout, 7 -Vout, 8 NC

## ITX2424SA-R
designator *  value ITX2424SA-R  Reference: PS
XP Power 6W, 1000 VDC Isolated DC/DC Converter Module, Remote Control, Fully Regulated Single Output Voltage 24V, ±250mA, 24V Input Voltage, SIP; ki_keywords: XP_POWER DC/DC isolated Converter module; ki_fp_filters: *XP?POWER?ITxxxxx*; Footprint: Converter_DCDC:Converter_DCDC_XP_POWER-ITxxxxxS_THT; Datasheet: https://www.xppower.com/pdfs/SF_ITX.pdf; Description_: XP Power 6W, 1000 VDC Isolated DC/DC Converter Module, Remote Control, Fully Regulated Single Output Voltage 24V, ±250mA, 24V Input Voltage, SIP
pins: 1 -Vin, 2 +Vin, 3 OnOff, 5 NC, 6 +Vout, 7 -Vout, 8 NC

## ITX4803SA
designator *  value ITX4803SA  Reference: PS
XP Power 6W, 1000 VDC Isolated DC/DC Converter Module, Fully Regulated Single Output Voltage 3.3V, ±1300mA, 48V Input Voltage, SIP; ki_keywords: XP_POWER DC/DC isolated Converter module; ki_fp_filters: *XP?POWER?ITXxxxxSA*; Footprint: Converter_DCDC:Converter_DCDC_XP_POWER-ITXxxxxSA_THT; Datasheet: https://www.xppower.com/pdfs/SF_ITX.pdf; Description_: XP Power 6W, 1000 VDC Isolated DC/DC Converter Module, Fully Regulated Single Output Voltage 3.3V, ±1300mA, 48V Input Voltage, SIP
pins: 1 -Vin, 2 +Vin, 6 +Vout, 7 -Vout, 8 NC

## ITX4803SA-H
designator *  value ITX4803SA-H  Reference: PS
XP Power 6W, 3000 VDC Isolated DC/DC Converter Module, Fully Regulated Single Output Voltage 3.3V, ±1300mA, 48V Input Voltage, SIP; ki_keywords: XP_POWER DC/DC isolated Converter module; ki_fp_filters: *XP?POWER?ITXxxxxSA*; Footprint: Converter_DCDC:Converter_DCDC_XP_POWER-ITXxxxxSA_THT; Datasheet: https://www.xppower.com/pdfs/SF_ITX.pdf; Description_: XP Power 6W, 3000 VDC Isolated DC/DC Converter Module, Fully Regulated Single Output Voltage 3.3V, ±1300mA, 48V Input Voltage, SIP
pins: 1 -Vin, 2 +Vin, 6 +Vout, 7 -Vout, 8 NC

## ITX4803SA-HR
designator *  value ITX4803SA-HR  Reference: PS
XP Power 6W, 3000 VDC Isolated DC/DC Converter Module, Remote Control, Fully Regulated Single Output Voltage 3.3V, ±1300mA, 48V Input Voltage, SIP; ki_keywords: XP_POWER DC/DC isolated Converter module; ki_fp_filters: *XP?POWER?ITxxxxx*; Footprint: Converter_DCDC:Converter_DCDC_XP_POWER-ITxxxxxS_THT; Datasheet: https://www.xppower.com/pdfs/SF_ITX.pdf; Description_: XP Power 6W, 3000 VDC Isolated DC/DC Converter Module, Remote Control, Fully Regulated Single Output Voltage 3.3V, ±1300mA, 48V Input Voltage, SIP
pins: 1 -Vin, 2 +Vin, 3 OnOff, 5 NC, 6 +Vout, 7 -Vout, 8 NC

## ITX4803SA-R
designator *  value ITX4803SA-R  Reference: PS
XP Power 6W, 1000 VDC Isolated DC/DC Converter Module, Remote Control, Fully Regulated Single Output Voltage 3.3V, ±1300mA, 48V Input Voltage, SIP; ki_keywords: XP_POWER DC/DC isolated Converter module; ki_fp_filters: *XP?POWER?ITxxxxx*; Footprint: Converter_DCDC:Converter_DCDC_XP_POWER-ITxxxxxS_THT; Datasheet: https://www.xppower.com/pdfs/SF_ITX.pdf; Description_: XP Power 6W, 1000 VDC Isolated DC/DC Converter Module, Remote Control, Fully Regulated Single Output Voltage 3.3V, ±1300mA, 48V Input Voltage, SIP
pins: 1 -Vin, 2 +Vin, 3 OnOff, 5 NC, 6 +Vout, 7 -Vout, 8 NC

## ITX4805S
designator *  value ITX4805S  Reference: PS
XP Power 6W, 1000 VDC Isolated DC/DC Converter Module, Fully Regulated Dual Output Voltage ±5V, ±600mA, 48V Input Voltage, SIP; ki_keywords: XP_POWER DC/DC isolated Converter module; ki_fp_filters: *XP?POWER?ITxxxxx*; Footprint: Converter_DCDC:Converter_DCDC_XP_POWER-ITxxxxxS_THT; Datasheet: https://www.xppower.com/pdfs/SF_ITX.pdf; Description_: XP Power 6W, 1000 VDC Isolated DC/DC Converter Module, Fully Regulated Dual Output Voltage ±5V, ±600mA, 48V Input Voltage, SIP
pins: 1 -Vin, 2 +Vin, 3 NC, 5 NC, 6 +Vout, 7 Common, 8 -Vout

## ITX4805S-H
designator *  value ITX4805S-H  Reference: PS
XP Power 6W, 3000 VDC Isolated DC/DC Converter Module, Fully Regulated Dual Output Voltage ±5V, ±600mA, 48V Input Voltage, SIP; ki_keywords: XP_POWER DC/DC isolated Converter module; ki_fp_filters: *XP?POWER?ITxxxxx*; Footprint: Converter_DCDC:Converter_DCDC_XP_POWER-ITxxxxxS_THT; Datasheet: https://www.xppower.com/pdfs/SF_ITX.pdf; Description_: XP Power 6W, 3000 VDC Isolated DC/DC Converter Module, Fully Regulated Dual Output Voltage ±5V, ±600mA, 48V Input Voltage, SIP
pins: 1 -Vin, 2 +Vin, 3 NC, 5 NC, 6 +Vout, 7 Common, 8 -Vout

## ITX4805S-HR
designator *  value ITX4805S-HR  Reference: PS
XP Power 6W, 3000 VDC Isolated DC/DC Converter Module, Remote Control, Fully Regulated Dual Output Voltage ±5V, ±600mA, 48V Input Voltage, SIP; ki_keywords: XP_POWER DC/DC isolated Converter module; ki_fp_filters: *XP?POWER?ITxxxxx*; Footprint: Converter_DCDC:Converter_DCDC_XP_POWER-ITxxxxxS_THT; Datasheet: https://www.xppower.com/pdfs/SF_ITX.pdf; Description_: XP Power 6W, 3000 VDC Isolated DC/DC Converter Module, Remote Control, Fully Regulated Dual Output Voltage ±5V, ±600mA, 48V Input Voltage, SIP
pins: 1 -Vin, 2 +Vin, 3 OnOff, 5 NC, 6 +Vout, 7 Common, 8 -Vout

## ITX4805S-R
designator *  value ITX4805S-R  Reference: PS
XP Power 6W, 1000 VDC Isolated DC/DC Converter Module, Remote Control, Fully Regulated Dual Output Voltage ±5V, ±600mA, 48V Input Voltage, SIP; ki_keywords: XP_POWER DC/DC isolated Converter module; ki_fp_filters: *XP?POWER?ITxxxxx*; Footprint: Converter_DCDC:Converter_DCDC_XP_POWER-ITxxxxxS_THT; Datasheet: https://www.xppower.com/pdfs/SF_ITX.pdf; Description_: XP Power 6W, 1000 VDC Isolated DC/DC Converter Module, Remote Control, Fully Regulated Dual Output Voltage ±5V, ±600mA, 48V Input Voltage, SIP
pins: 1 -Vin, 2 +Vin, 3 OnOff, 5 NC, 6 +Vout, 7 Common, 8 -Vout

## ITX4805SA
designator *  value ITX4805SA  Reference: PS
XP Power 6W, 1000 VDC Isolated DC/DC Converter Module, Fully Regulated Single Output Voltage 5V, ±1200mA, 48V Input Voltage, SIP; ki_keywords: XP_POWER DC/DC isolated Converter module; ki_fp_filters: *XP?POWER?ITXxxxxSA*; Footprint: Converter_DCDC:Converter_DCDC_XP_POWER-ITXxxxxSA_THT; Datasheet: https://www.xppower.com/pdfs/SF_ITX.pdf; Description_: XP Power 6W, 1000 VDC Isolated DC/DC Converter Module, Fully Regulated Single Output Voltage 5V, ±1200mA, 48V Input Voltage, SIP
pins: 1 -Vin, 2 +Vin, 6 +Vout, 7 -Vout, 8 NC

## ITX4805SA-H
designator *  value ITX4805SA-H  Reference: PS
XP Power 6W, 3000 VDC Isolated DC/DC Converter Module, Fully Regulated Single Output Voltage 5V, ±1200mA, 48V Input Voltage, SIP; ki_keywords: XP_POWER DC/DC isolated Converter module; ki_fp_filters: *XP?POWER?ITXxxxxSA*; Footprint: Converter_DCDC:Converter_DCDC_XP_POWER-ITXxxxxSA_THT; Datasheet: https://www.xppower.com/pdfs/SF_ITX.pdf; Description_: XP Power 6W, 3000 VDC Isolated DC/DC Converter Module, Fully Regulated Single Output Voltage 5V, ±1200mA, 48V Input Voltage, SIP
pins: 1 -Vin, 2 +Vin, 6 +Vout, 7 -Vout, 8 NC

## ITX4805SA-HR
designator *  value ITX4805SA-HR  Reference: PS
XP Power 6W, 3000 VDC Isolated DC/DC Converter Module, Remote Control, Fully Regulated Single Output Voltage 5V, ±1200mA, 48V Input Voltage, SIP; ki_keywords: XP_POWER DC/DC isolated Converter module; ki_fp_filters: *XP?POWER?ITxxxxx*; Footprint: Converter_DCDC:Converter_DCDC_XP_POWER-ITxxxxxS_THT; Datasheet: https://www.xppower.com/pdfs/SF_ITX.pdf; Description_: XP Power 6W, 3000 VDC Isolated DC/DC Converter Module, Remote Control, Fully Regulated Single Output Voltage 5V, ±1200mA, 48V Input Voltage, SIP
pins: 1 -Vin, 2 +Vin, 3 OnOff, 5 NC, 6 +Vout, 7 -Vout, 8 NC

## ITX4805SA-R
designator *  value ITX4805SA-R  Reference: PS
XP Power 6W, 1000 VDC Isolated DC/DC Converter Module, Remote Control, Fully Regulated Single Output Voltage 5V, ±1200mA, 48V Input Voltage, SIP; ki_keywords: XP_POWER DC/DC isolated Converter module; ki_fp_filters: *XP?POWER?ITxxxxx*; Footprint: Converter_DCDC:Converter_DCDC_XP_POWER-ITxxxxxS_THT; Datasheet: https://www.xppower.com/pdfs/SF_ITX.pdf; Description_: XP Power 6W, 1000 VDC Isolated DC/DC Converter Module, Remote Control, Fully Regulated Single Output Voltage 5V, ±1200mA, 48V Input Voltage, SIP
pins: 1 -Vin, 2 +Vin, 3 OnOff, 5 NC, 6 +Vout, 7 -Vout, 8 NC

## ITX4809SA
designator *  value ITX4809SA  Reference: PS
XP Power 6W, 1000 VDC Isolated DC/DC Converter Module, Fully Regulated Single Output Voltage 9V, ±666mA, 48V Input Voltage, SIP; ki_keywords: XP_POWER DC/DC isolated Converter module; ki_fp_filters: *XP?POWER?ITXxxxxSA*; Footprint: Converter_DCDC:Converter_DCDC_XP_POWER-ITXxxxxSA_THT; Datasheet: https://www.xppower.com/pdfs/SF_ITX.pdf; Description_: XP Power 6W, 1000 VDC Isolated DC/DC Converter Module, Fully Regulated Single Output Voltage 9V, ±666mA, 48V Input Voltage, SIP
pins: 1 -Vin, 2 +Vin, 6 +Vout, 7 -Vout, 8 NC

## ITX4809SA-H
designator *  value ITX4809SA-H  Reference: PS
XP Power 6W, 3000 VDC Isolated DC/DC Converter Module, Fully Regulated Single Output Voltage 9V, ±666mA, 48V Input Voltage, SIP; ki_keywords: XP_POWER DC/DC isolated Converter module; ki_fp_filters: *XP?POWER?ITXxxxxSA*; Footprint: Converter_DCDC:Converter_DCDC_XP_POWER-ITXxxxxSA_THT; Datasheet: https://www.xppower.com/pdfs/SF_ITX.pdf; Description_: XP Power 6W, 3000 VDC Isolated DC/DC Converter Module, Fully Regulated Single Output Voltage 9V, ±666mA, 48V Input Voltage, SIP
pins: 1 -Vin, 2 +Vin, 6 +Vout, 7 -Vout, 8 NC

## ITX4809SA-HR
designator *  value ITX4809SA-HR  Reference: PS
XP Power 6W, 3000 VDC Isolated DC/DC Converter Module, Remote Control, Fully Regulated Single Output Voltage 9V, ±666mA, 48V Input Voltage, SIP; ki_keywords: XP_POWER DC/DC isolated Converter module; ki_fp_filters: *XP?POWER?ITxxxxx*; Footprint: Converter_DCDC:Converter_DCDC_XP_POWER-ITxxxxxS_THT; Datasheet: https://www.xppower.com/pdfs/SF_ITX.pdf; Description_: XP Power 6W, 3000 VDC Isolated DC/DC Converter Module, Remote Control, Fully Regulated Single Output Voltage 9V, ±666mA, 48V Input Voltage, SIP
pins: 1 -Vin, 2 +Vin, 3 OnOff, 5 NC, 6 +Vout, 7 -Vout, 8 NC

## ITX4809SA-R
designator *  value ITX4809SA-R  Reference: PS
XP Power 6W, 1000 VDC Isolated DC/DC Converter Module, Remote Control, Fully Regulated Single Output Voltage 9V, ±666mA, 48V Input Voltage, SIP; ki_keywords: XP_POWER DC/DC isolated Converter module; ki_fp_filters: *XP?POWER?ITxxxxx*; Footprint: Converter_DCDC:Converter_DCDC_XP_POWER-ITxxxxxS_THT; Datasheet: https://www.xppower.com/pdfs/SF_ITX.pdf; Description_: XP Power 6W, 1000 VDC Isolated DC/DC Converter Module, Remote Control, Fully Regulated Single Output Voltage 9V, ±666mA, 48V Input Voltage, SIP
pins: 1 -Vin, 2 +Vin, 3 OnOff, 5 NC, 6 +Vout, 7 -Vout, 8 NC

## ITX4812S
designator *  value ITX4812S  Reference: PS
XP Power 6W, 1000 VDC Isolated DC/DC Converter Module, Fully Regulated Dual Output Voltage ±12V, ±250mA, 48V Input Voltage, SIP; ki_keywords: XP_POWER DC/DC isolated Converter module; ki_fp_filters: *XP?POWER?ITxxxxx*; Footprint: Converter_DCDC:Converter_DCDC_XP_POWER-ITxxxxxS_THT; Datasheet: https://www.xppower.com/pdfs/SF_ITX.pdf; Description_: XP Power 6W, 1000 VDC Isolated DC/DC Converter Module, Fully Regulated Dual Output Voltage ±12V, ±250mA, 48V Input Voltage, SIP
pins: 1 -Vin, 2 +Vin, 3 NC, 5 NC, 6 +Vout, 7 Common, 8 -Vout

## ITX4812S-H
designator *  value ITX4812S-H  Reference: PS
XP Power 6W, 3000 VDC Isolated DC/DC Converter Module, Fully Regulated Dual Output Voltage ±12V, ±250mA, 48V Input Voltage, SIP; ki_keywords: XP_POWER DC/DC isolated Converter module; ki_fp_filters: *XP?POWER?ITxxxxx*; Footprint: Converter_DCDC:Converter_DCDC_XP_POWER-ITxxxxxS_THT; Datasheet: https://www.xppower.com/pdfs/SF_ITX.pdf; Description_: XP Power 6W, 3000 VDC Isolated DC/DC Converter Module, Fully Regulated Dual Output Voltage ±12V, ±250mA, 48V Input Voltage, SIP
pins: 1 -Vin, 2 +Vin, 3 NC, 5 NC, 6 +Vout, 7 Common, 8 -Vout

## ITX4812S-HR
designator *  value ITX4812S-HR  Reference: PS
XP Power 6W, 3000 VDC Isolated DC/DC Converter Module, Remote Control, Fully Regulated Dual Output Voltage ±12V, ±250mA, 48V Input Voltage, SIP; ki_keywords: XP_POWER DC/DC isolated Converter module; ki_fp_filters: *XP?POWER?ITxxxxx*; Footprint: Converter_DCDC:Converter_DCDC_XP_POWER-ITxxxxxS_THT; Datasheet: https://www.xppower.com/pdfs/SF_ITX.pdf; Description_: XP Power 6W, 3000 VDC Isolated DC/DC Converter Module, Remote Control, Fully Regulated Dual Output Voltage ±12V, ±250mA, 48V Input Voltage, SIP
pins: 1 -Vin, 2 +Vin, 3 OnOff, 5 NC, 6 +Vout, 7 Common, 8 -Vout

## ITX4812S-R
designator *  value ITX4812S-R  Reference: PS
XP Power 6W, 1000 VDC Isolated DC/DC Converter Module, Remote Control, Fully Regulated Dual Output Voltage ±12V, ±250mA, 48V Input Voltage, SIP; ki_keywords: XP_POWER DC/DC isolated Converter module; ki_fp_filters: *XP?POWER?ITxxxxx*; Footprint: Converter_DCDC:Converter_DCDC_XP_POWER-ITxxxxxS_THT; Datasheet: https://www.xppower.com/pdfs/SF_ITX.pdf; Description_: XP Power 6W, 1000 VDC Isolated DC/DC Converter Module, Remote Control, Fully Regulated Dual Output Voltage ±12V, ±250mA, 48V Input Voltage, SIP
pins: 1 -Vin, 2 +Vin, 3 OnOff, 5 NC, 6 +Vout, 7 Common, 8 -Vout